# EAGLE library part NRF24L01 (library arduino)
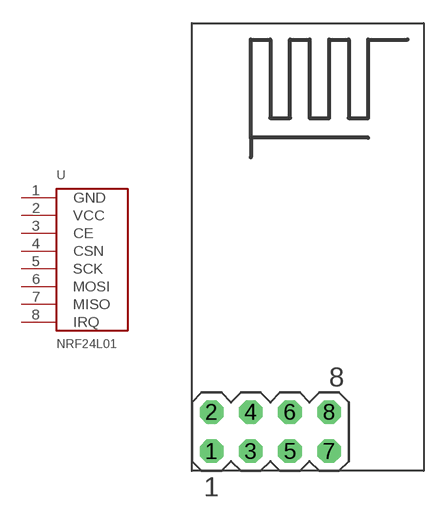
[diagram p8: symbol with the pads of MA04-2; footprint MA04-2]

Designator prefix -

## NRF24L01  [MA04-2]
1  GND
2  VCC
3  CE
4  CSN
5  SCK
6  MOSI
7  MISO
8  IRQ

## Footprint MA04-2 (pad centres in mm)
PIN HEADER
drill 1.016 octagon: 1 -3.81,-1.27; 2 -3.81,1.27; 3 -1.27,-1.27; 4 -1.27,1.27; 5 1.27,-1.27; 6 1.27,1.27; 7 3.81,-1.27; 8 3.81,1.27